# Altium integrated library SRT.IntLib: 28 symbols
Pins are listed as number, name and electrical type; pins without a type are passive.

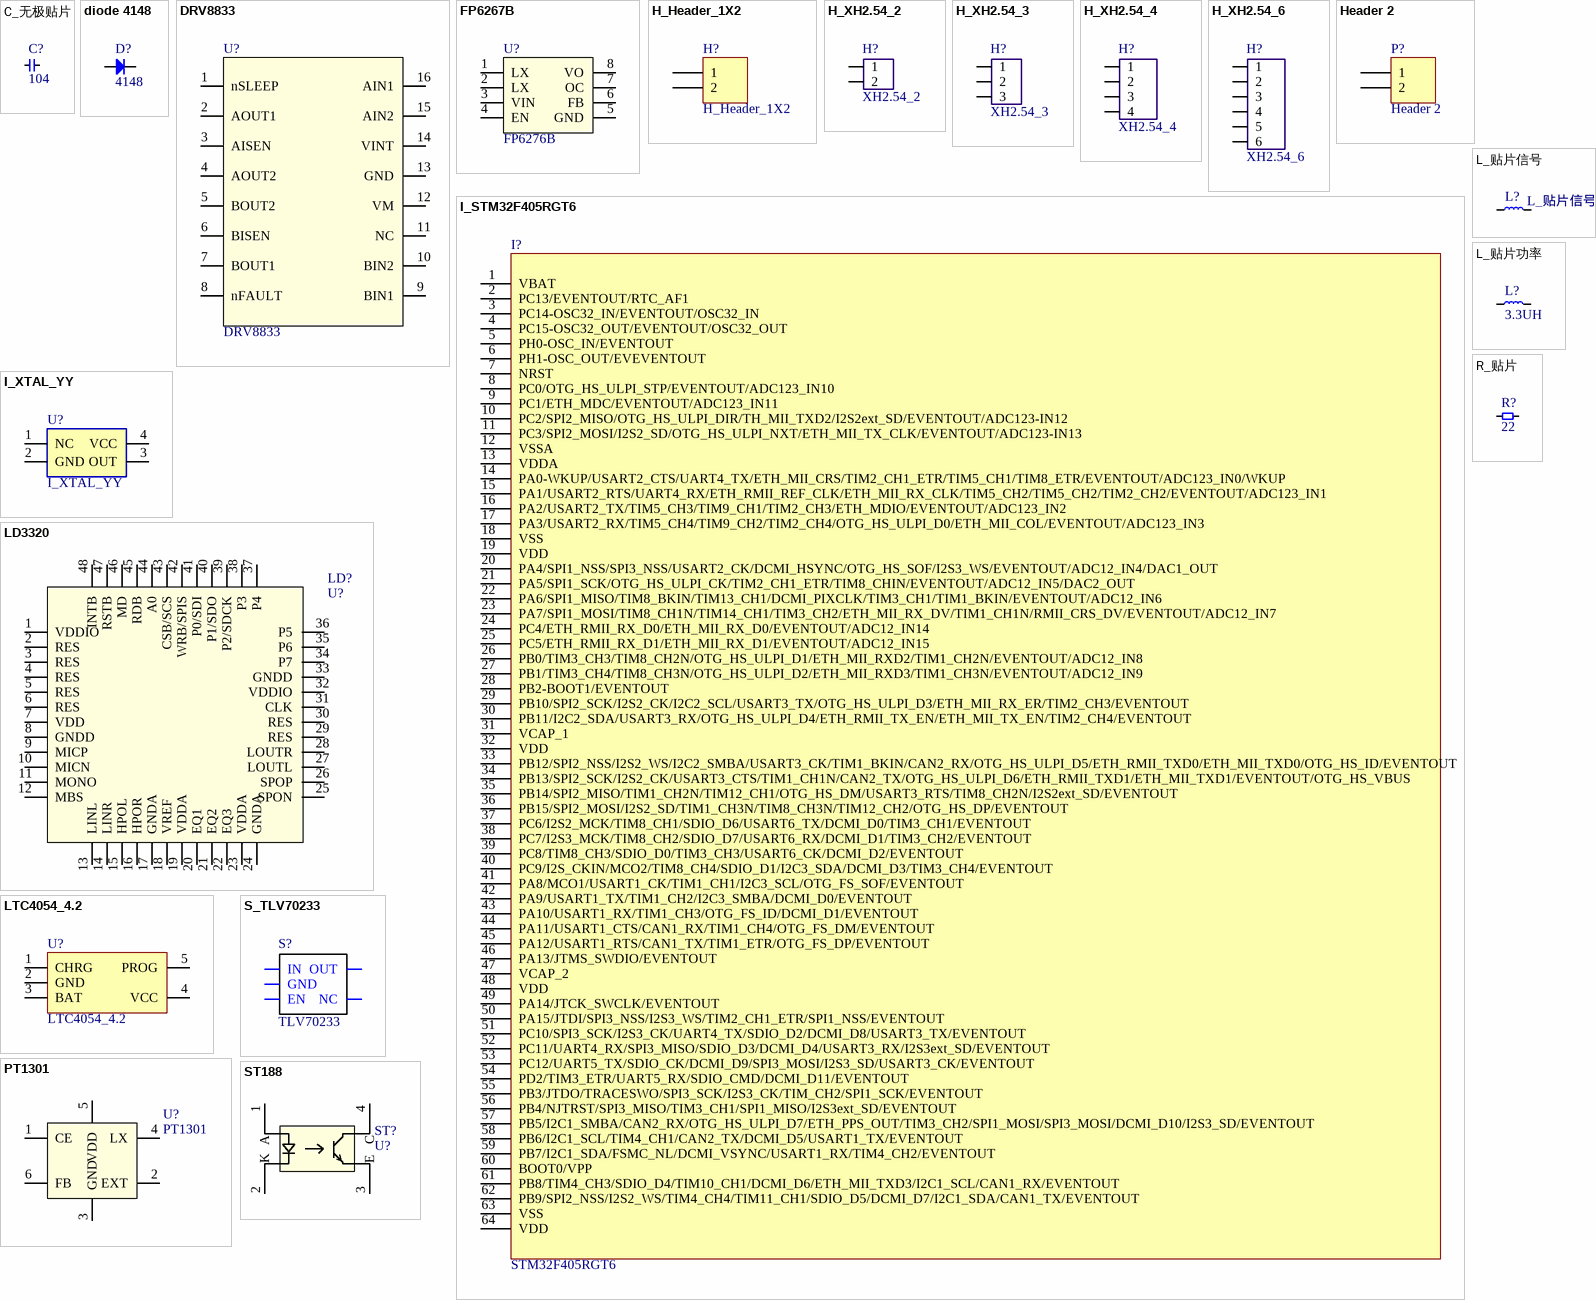
[diagram p0: symbols C_无极贴片 to ST188]

## C_无极贴片
designator C?, comment 104
无极性贴片电容
footprint C_0201 (贴片无极性电容0201封装)
footprint C_0402 (贴片无极性电容0402封装)
footprint C_0603 (贴片无极性电容0603封装)
footprint C_0805 (贴片无极性电容0805封装)
footprint C_1206 (贴片无极性电容1206封装)
footprint C_1210 (贴片无极性电容1210封装)
footprint C_1812 (贴片无极性电容1812封装)
pins: 1, 2

## diode 4148
designator D?, comment 4148
footprint 1206D
footprint sod-323
pins: 1 A, 2 K

## DRV8833
designator U?
footprint QFN16
footprint SSOP16
pins: 1 nSLEEP, 2 AOUT1, 3 AISEN, 4 AOUT2, 5 BOUT2, 6 BISEN, 7 BOUT1, 8 nFAULT, 9 BIN1, 10 BIN2, 11 NC, 12 VM, 13 GND, 14 VINT, 15 AIN2, 16 AIN1

## FP6267B
designator U?, comment FP6276B
footprint SOP8
pins: 1 LX, 2 LX, 3 VIN, 4 EN, 5 GND, 6 FB, 7 OC, 8 VO

## H_Header_1X2
designator H?
单排2针排针; LatestRevisionDate: 17-Jul-2002; LatestRevisionNote: Re-released for DXP Platform.; Publisher: Altium Limited
footprint H_Header_1X2 (单排2针排针)
pins: 1, 2

## H_XH2.54_2
designator H?, comment XH2.54_2
2脚小白头; LatestRevisionDate: 17-Jul-2002; LatestRevisionNote: Re-released for DXP Platform.; Publisher: Altium Limited
footprint H_XH2.54_2
footprint H_XH2.54_2(弯)
footprint H_XHB2.54_2P
pins: 1, 2

## H_XH2.54_3
designator H?, comment XH2.54_3
3脚小白头; LatestRevisionDate: 17-Jul-2002; LatestRevisionNote: Re-released for DXP Platform.; Publisher: Altium Limited
footprint H_XH2.54_3
footprint H_XH2.54_3(弯)
footprint H_XHB2.54_3P
pins: 1, 2, 3

## H_XH2.54_4
designator H?, comment XH2.54_4
4脚小白头; LatestRevisionDate: 17-Jul-2002; LatestRevisionNote: Re-released for DXP Platform.; Publisher: Altium Limited
footprint H_XH2.54_4
footprint H_XH2.54_4(弯)
footprint H_XHB2.54_4P
pins: 1, 2, 3, 4

## H_XH2.54_6
designator H?, comment XH2.54_6
6脚小白头; LatestRevisionDate: 17-Jul-2002; LatestRevisionNote: Re-released for DXP Platform.; Publisher: Altium Limited
footprint H_XH2.54_6
footprint H_XHB2.54_6P
pins: 1, 2, 3, 4, 5, 6

## Header 2
designator P?
Header, 2-Pin; LatestRevisionDate: 17-Jul-2002; LatestRevisionNote: Re-released for DXP Platform.; Publisher: Altium Limited
footprint HDR1X2 (Connector; Header; 2 Position)
signal-integrity model Connector
pins: 1, 2

## I_STM32F405RGT6
designator I?, comment STM32F405RGT6
LQFP-64
footprint I_LQFP-64
pins: 1 VBAT (power), 2 PC13/EVENTOUT/RTC_AF1 (power), 3 PC14-OSC32_IN/EVENTOUT/OSC32_IN (power), 4 PC15-OSC32_OUT/EVENTOUT/OSC32_OUT (power), 5 PH0-OSC_IN/EVENTOUT (power), 6 PH1-OSC_OUT/EVEVENTOUT (power), 7 NRST (power), 8 PC0/OTG_HS_ULPI_STP/EVENTOUT/ADC123_IN10 (power), 9 PC1/ETH_MDC/EVENTOUT/ADC123_IN11 (power), 10 PC2/SPI2_MISO/OTG_HS_ULPI_DIR/TH_MII_TXD2/I2S2ext_SD/EVENTOUT/ADC123-IN12 (power), 11 PC3/SPI2_MOSI/I2S2_SD/OTG_HS_ULPI_NXT/ETH_MII_TX_CLK/EVENTOUT/ADC123-IN13 (power), 12 VSSA (power), 13 VDDA (power), 14 PA0-WKUP/USART2_CTS/UART4_TX/ETH_MII_CRS/TIM2_CH1_ETR/TIM5_CH1/TIM8_ETR/EVENTOUT/ADC123_IN0/WKUP (power), 15 PA1/USART2_RTS/UART4_RX/ETH_RMII_REF_CLK/ETH_MII_RX_CLK/TIM5_CH2/TIM5_CH2/TIM2_CH2/EVENTOUT/ADC123_IN1 (power), 16 PA2/USART2_TX/TIM5_CH3/TIM9_CH1/TIM2_CH3/ETH_MDIO/EVENTOUT/ADC123_IN2 (power), 17 PA3/USART2_RX/TIM5_CH4/TIM9_CH2/TIM2_CH4/OTG_HS_ULPI_D0/ETH_MII_COL/EVENTOUT/ADC123_IN3 (power), 18 VSS (power), 19 VDD (power), 20 PA4/SPI1_NSS/SPI3_NSS/USART2_CK/DCMI_HSYNC/OTG_HS_SOF/I2S3_WS/EVENTOUT/ADC12_IN4/DAC1_OUT (power), 21 PA5/SPI1_SCK/OTG_HS_ULPI_CK/TIM2_CH1_ETR/TIM8_CHIN/EVENTOUT/ADC12_IN5/DAC2_OUT (power), 22 PA6/SPI1_MISO/TIM8_BKIN/TIM13_CH1/DCMI_PIXCLK/TIM3_CH1/TIM1_BKIN/EVENTOUT/ADC12_IN6 (power), 23 PA7/SPI1_MOSI/TIM8_CH1N/TIM14_CH1/TIM3_CH2/ETH_MII_RX_DV/TIM1_CH1N/RMII_CRS_DV/EVENTOUT/ADC12_IN7 (power), 24 PC4/ETH_RMII_RX_D0/ETH_MII_RX_D0/EVENTOUT/ADC12_IN14 (power), 25 PC5/ETH_RMII_RX_D1/ETH_MII_RX_D1/EVENTOUT/ADC12_IN15 (power), 26 PB0/TIM3_CH3/TIM8_CH2N/OTG_HS_ULPI_D1/ETH_MII_RXD2/TIM1_CH2N/EVENTOUT/ADC12_IN8 (power), 27 PB1/TIM3_CH4/TIM8_CH3N/OTG_HS_ULPI_D2/ETH_MII_RXD3/TIM1_CH3N/EVENTOUT/ADC12_IN9 (power), 28 PB2-BOOT1/EVENTOUT (power), 29 PB10/SPI2_SCK/I2S2_CK/I2C2_SCL/USART3_TX/OTG_HS_ULPI_D3/ETH_MII_RX_ER/TIM2_CH3/EVENTOUT (power), 30 PB11/I2C2_SDA/USART3_RX/OTG_HS_ULPI_D4/ETH_RMII_TX_EN/ETH_MII_TX_EN/TIM2_CH4/EVENTOUT (power), 31 VCAP_1 (power), 32 VDD (power), 33 PB12/SPI2_NSS/I2S2_WS/I2C2_SMBA/USART3_CK/TIM1_BKIN/CAN2_RX/OTG_HS_ULPI_D5/ETH_RMII_TXD0/ETH_MII_TXD0/OTG_HS_ID/EVENTOUT (power), 34 PB13/SPI2_SCK/I2S2_CK/USART3_CTS/TIM1_CH1N/CAN2_TX/OTG_HS_ULPI_D6/ETH_RMII_TXD1/ETH_MII_TXD1/EVENTOUT/OTG_HS_VBUS (power), 35 PB14/SPI2_MISO/TIM1_CH2N/TIM12_CH1/OTG_HS_DM/USART3_RTS/TIM8_CH2N/I2S2ext_SD/EVENTOUT (power), 36 PB15/SPI2_MOSI/I2S2_SD/TIM1_CH3N/TIM8_CH3N/TIM12_CH2/OTG_HS_DP/EVENTOUT (power), 37 PC6/I2S2_MCK/TIM8_CH1/SDIO_D6/USART6_TX/DCMI_D0/TIM3_CH1/EVENTOUT (power), 38 PC7/I2S3_MCK/TIM8_CH2/SDIO_D7/USART6_RX/DCMI_D1/TIM3_CH2/EVENTOUT (power), 39 PC8/TIM8_CH3/SDIO_D0/TIM3_CH3/USART6_CK/DCMI_D2/EVENTOUT (power), 40 PC9/I2S_CKIN/MCO2/TIM8_CH4/SDIO_D1/I2C3_SDA/DCMI_D3/TIM3_CH4/EVENTOUT (power), 41 PA8/MCO1/USART1_CK/TIM1_CH1/I2C3_SCL/OTG_FS_SOF/EVENTOUT (power), 42 PA9/USART1_TX/TIM1_CH2/I2C3_SMBA/DCMI_D0/EVENTOUT (power), 43 PA10/USART1_RX/TIM1_CH3/OTG_FS_ID/DCMI_D1/EVENTOUT (power), 44 PA11/USART1_CTS/CAN1_RX/TIM1_CH4/OTG_FS_DM/EVENTOUT (power), 45 PA12/USART1_RTS/CAN1_TX/TIM1_ETR/OTG_FS_DP/EVENTOUT (power), 46 PA13/JTMS_SWDIO/EVENTOUT (power), 47 VCAP_2 (power), 48 VDD (power), 49 PA14/JTCK_SWCLK/EVENTOUT (power), 50 PA15/JTDI/SPI3_NSS/I2S3_WS/TIM2_CH1_ETR/SPI1_NSS/EVENTOUT (power), 51 PC10/SPI3_SCK/I2S3_CK/UART4_TX/SDIO_D2/DCMI_D8/USART3_TX/EVENTOUT (power), 52 PC11/UART4_RX/SPI3_MISO/SDIO_D3/DCMI_D4/USART3_RX/I2S3ext_SD/EVENTOUT (power), 53 PC12/UART5_TX/SDIO_CK/DCMI_D9/SPI3_MOSI/I2S3_SD/USART3_CK/EVENTOUT (power), 54 PD2/TIM3_ETR/UART5_RX/SDIO_CMD/DCMI_D11/EVENTOUT (power), 55 PB3/JTDO/TRACESWO/SPI3_SCK/I2S3_CK/TIM_CH2/SPI1_SCK/EVENTOUT (power), 56 PB4/NJTRST/SPI3_MISO/TIM3_CH1/SPI1_MISO/I2S3ext_SD/EVENTOUT (power), 57 PB5/I2C1_SMBA/CAN2_RX/OTG_HS_ULPI_D7/ETH_PPS_OUT/TIM3_CH2/SPI1_MOSI/SPI3_MOSI/DCMI_D10/I2S3_SD/EVENTOUT (power), 58 PB6/I2C1_SCL/TIM4_CH1/CAN2_TX/DCMI_D5/USART1_TX/EVENTOUT (power), 59 PB7/I2C1_SDA/FSMC_NL/DCMI_VSYNC/USART1_RX/TIM4_CH2/EVENTOUT (power), 60 BOOT0/VPP (power), 61 PB8/TIM4_CH3/SDIO_D4/TIM10_CH1/DCMI_D6/ETH_MII_TXD3/I2C1_SCL/CAN1_RX/EVENTOUT (power), 62 PB9/SPI2_NSS/I2S2_WS/TIM4_CH4/TIM11_CH1/SDIO_D5/DCMI_D7/I2C1_SDA/CAN1_TX/EVENTOUT (power), 63 VSS (power), 64 VDD (power)

## I_XTAL_YY
designator U?
有源晶振
footprint I_XTAL_YYSMD_5X3.2 (5X3.2mm贴片有源晶振)
footprint I_XTAL_YYSMD_3.2X2.5 (3.2X2.5mm贴片有源晶振)
footprint I_XTAL_YYSMD_5X7 (5X7mm贴片有源晶振)
pins: 1 NC, 2 GND, 3 OUT, 4 VCC

## L_贴片信号
designator L?
贴片信号电感
footprint L_0805 (贴片电感0805封装)
pins: 1, 2

## L_贴片功率
designator L?, comment 3.3UH
贴片屏蔽式功率电感
footprint L_TDK_SLF60XX (TDK贴片功率电感)
footprint L_TDK_SLF70XX (TDK贴片功率电感)
footprint L_TDK_SLF101XX (TDK贴片功率电感)
footprint L_TDK_SLF125XX
footprint L_VISHAY_IHLP-1212 (VISHAY大电流电感IHLP1212)
footprint L_VISHAY_IHLP-1616 (VISHAY大电流电感IHLP1616)
footprint L_VISHAY_IHLP-2020 (VISHAY大电流电感IHLP2020)
footprint L_VISHAY_IHLP-2525 (VISHAY大电流电感IHLP2525)
footprint L_VISHAY_IHLP-3232 (VISHAY大电流电感IHLP3232)
footprint L_VISHAY_IHLP-4040 (VISHAY大电流电感IHLP4040)
footprint L_VISHAY_IHLP-5050 (VISHAY大电流电感IHLP5050)
footprint L_VISHAY_IHLP-6767 (VISHAY大电流电感IHLP6767)
pins: 1, 2

## LD3320
designator LD?, comment U?
footprint QFN48
pins: 1 VDDIO, 2 RES, 3 RES, 4 RES, 5 RES, 6 RES, 7 VDD, 8 GNDD, 9 MICP, 10 MICN, 11 MONO, 12 MBS, 13 LINL, 14 LINR, 15 HPOL, 16 HPOR, 17 GNDA, 18 VREF, 19 VDDA, 20 EQ1, 21 EQ2, 22 EQ3, 23 VDDA, 24 GNDA, 25 SPON, 26 SPOP, 27 LOUTL, 28 LOUTR, 29 RES, 30 RES, 31 CLK, 32 VDDIO, 33 GNDD, 34 P7, 35 P6, 36 P5, 37 P4, 38 P3, 39 P2/SDCK, 40 P1/SDO, 41 P0/SDI, 42 WRB/SPIS, 43 CSB/SCS, 44 A0, 45 RDB, 46 MD, 47 RSTB, 48 INTB

## LTC4054_4.2
designator U?
footprint PDSO_G5
pins: 1 CHRG, 2 GND, 3 BAT, 4 VCC, 5 PROG

## PT1301
designator U?
footprint PDSO_G6
pins: 1 CE, 2 EXT, 3 GND, 4 LX, 5 VDD, 6 FB

## R_贴片
designator R?, comment 22
贴片电阻
footprint R_0201 (贴片电阻0201封装)
footprint R_0402 (贴片电阻0402封装)
footprint R_1210 (贴片电阻1210封装)
footprint R_1812 (贴片电阻1812封装)
footprint R_2010 (贴片电阻2010封装)
footprint R_2512 (贴片电阻2512封装)
footprint R_0603 (贴片电阻0603封装)
footprint R_0805 (贴片电阻0805封装)
footprint R_1206 (贴片电阻1206封装)
pins: 1, 2

## S_TLV70233
designator S?, comment TLV70233
小封装LDO
footprint S_SOT23-5_TLV70233 (小体积LDO)
pins: 1 IN, 2 GND, 3 EN, 4 NC, 5 OUT

## ST188
designator ST?, comment U?
footprint ST188
pins: 1 A, 2 K, 3 E, 4 C

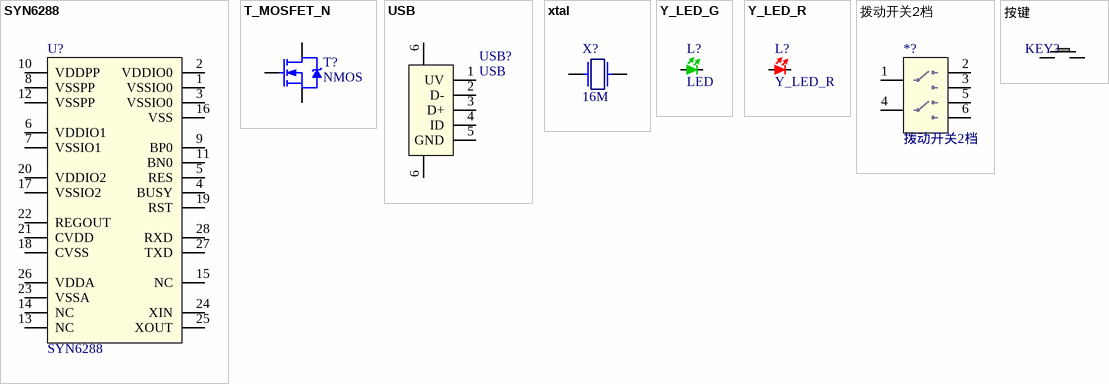
[diagram p1: symbols SYN6288 to 按键]

## SYN6288
designator U?
footprint SSOP28
pins: 1 VSSIO0, 2 VDDIO0, 3 VSSIO0, 4 BUSY, 5 RES, 6 VDDIO1, 7 VSSIO1, 8 VSSPP, 9 BP0, 10 VDDPP, 11 BN0, 12 VSSPP, 13 NC, 14 NC, 15 NC, 16 VSS, 17 VSSIO2, 18 CVSS, 19 RST, 20 VDDIO2, 21 CVDD, 22 REGOUT, 23 VSSA, 24 XIN, 25 XOUT, 26 VDDA, 27 TXD, 28 RXD

## T_MOSFET_N
designator T?, comment NMOS
N沟道MOS管; Note: Pin 2 is electrically connected to pin 4.; Published: 8-Jun-2000; LatestRevisionDate: 17-Jul-2002; LatestRevisionNote: Re-released for DXP Platform.; DatasheetDocument: PD-9.814; PackageReference: TO-220AB; Publisher: Altium Limited; Code_JEDEC: TO-220-AB
footprint T_MOS_TO-220
footprint T_MOS_IRF3710
footprint T_MOS_SOT-23 (贴片MOS的SOT-23封装)
footprint T_MOS_TO-252 (MOS管TO-252封装)
footprint T_MOS_PQFN5X6 (MOS管5X6mmPQFN封装)
pins: 1 G, 2 S, 3 D

## USB
designator USB?
footprint micro-USB(立式直插）
pins: 1 UV, 2 D-, 3 D+, 4 ID, 5 GND, 6 G, 6 G

## xtal
designator X?  value 16M  (hidden comment: xtal)
footprint XTAL_32.768KHZ
footprint XTAL_DIP
footprint XTAL_SMD
footprint XTAL_有源_SMD
footprint XTAL_有源长方
footprint XTAL_有源正方
pins: 1, 2

## Y_LED_G
designator L?, comment LED
绿色LED
footprint C_1206 (贴片无极性电容1206封装)
footprint Y_LED_0603_G (绿色贴片0603LED)
pins: 1, 2

## Y_LED_R
designator L?
红色LED
footprint Y_LED_0805_R (红色贴片0805LED)
footprint Y_LED_0603_R (红色贴片0603LED)
pins: 1, 2

## 拨动开关2档
designator *?
footprint 拨动开关2档9mm
footprint 拨档开关2x3立式
pins: 1, 2, 3, 4, 5, 6

## 按键
designator KEY?, comment KEY  (value not drawn)
footprint 按键_小四脚
footprint 四脚按键_卧式
footprint 四脚按键_贴片
footprint 12*12按键直插
pins: 1 0, 2 1